# Altium schematic symbol library lilfoot.SchLib: 2 symbols
Pins are listed as number, name and electrical type; pins without a type are passive.

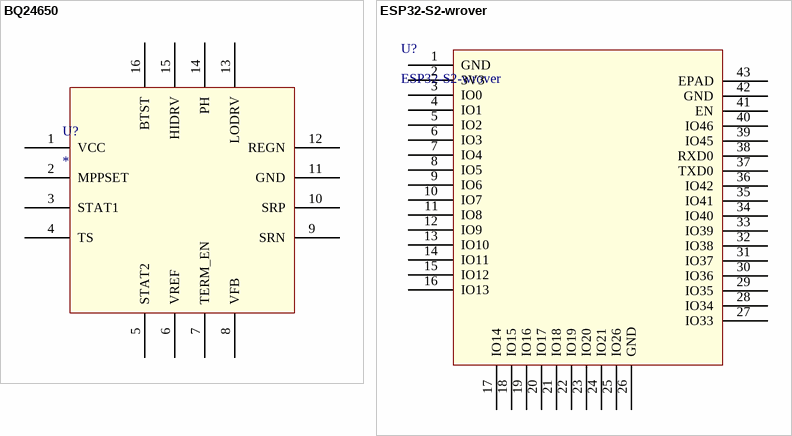
[diagram p0: symbols BQ24650 to ESP32-S2-wrover]

## BQ24650
designator U?
pins: 1 VCC, 2 MPPSET, 3 STAT1, 4 TS, 5 STAT2, 6 VREF, 7 TERM_EN, 8 VFB, 9 SRN, 10 SRP, 11 GND, 12 REGN, 13 LODRV, 14 PH, 15 HIDRV, 16 BTST

## ESP32-S2-wrover
designator U?
pins: 1 GND, 2 3V3, 3 IO0, 4 IO1, 5 IO2, 6 IO3, 7 IO4, 8 IO5, 9 IO6, 10 IO7, 11 IO8, 12 IO9, 13 IO10, 14 IO11, 15 IO12, 16 IO13, 17 IO14, 18 IO15, 19 IO16, 20 IO17, 21 IO18, 22 IO19, 23 IO20, 24 IO21, 25 IO26, 26 GND, 27 IO33, 28 IO34, 29 IO35, 30 IO36, 31 IO37, 32 IO38, 33 IO39, 34 IO40, 35 IO41, 36 IO42, 37 TXD0, 38 RXD0, 39 IO45, 40 IO46, 41 EN, 42 GND, 43 EPAD